# EAGLE library part 90136-1?08 (library con-molex-c-grid)
C-Grid III
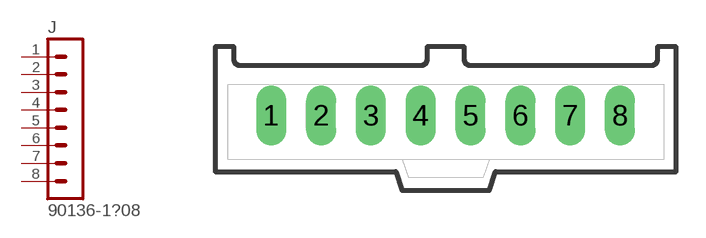
[diagram p62: symbol with the pads of 90136-1?08; footprint 90136-1?08]

Designator prefix J

## 90136-108  [90136-1?08]
1  1  pas
2  2  pas
3  3  pas
4  4  pas
5  5  pas
6  6  pas
7  7  pas
8  8  pas

## Footprint 90136-1?08 (pad centres in mm)
C-Grid III vertical
drill 1.016 long: 1 -8.89,0; 2 -6.35,0; 3 -3.81,0; 4 -1.27,0; 5 1.27,0; 6 3.81,0; 7 6.35,0; 8 8.89,0